# EAGLE library part ES_2144_V2 (library Electrosmith_Boards)
Designed for ES_2144_Rev_7
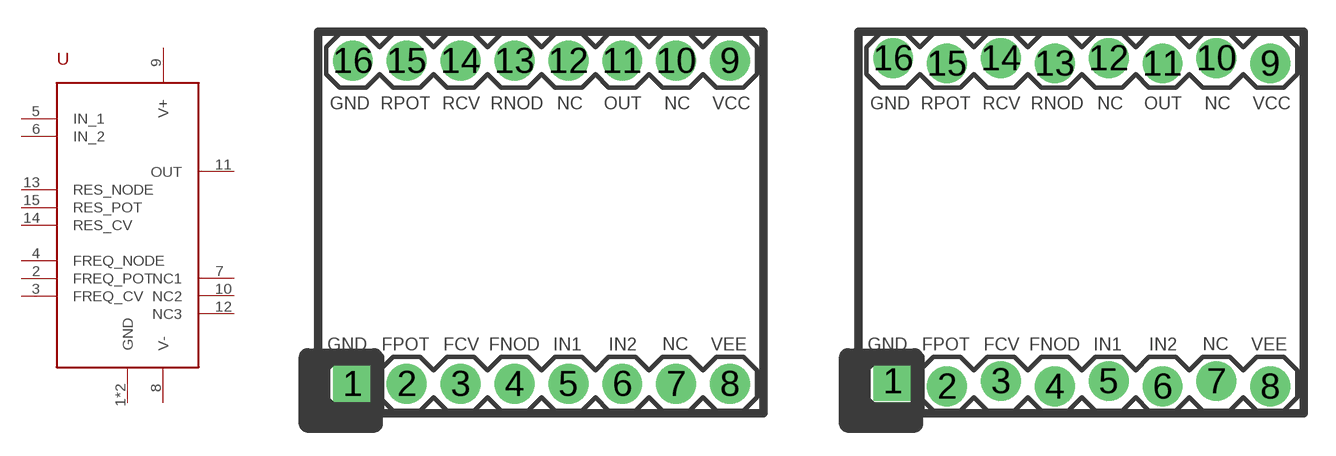
[diagram p0: symbol with the pads of ES_2144_V2; footprints ES_2144_V2, ES_2144_V2_LOCK]

Designator prefix U

## ES_2144_V2  [ES_2144_V2]
1  GND
2  FREQ_POT
3  FREQ_CV
4  FREQ_NODE
5  IN_1
6  IN_2
7  NC1
8  V-
9  V+
10  NC2
11  OUT
12  NC3
13  RES_NODE
14  RES_CV
15  RES_POT
16  GND

## ES_2144_V2_LOCK  [ES_2144_V2_LOCK]
Pads as for ES_2144_V2

## Footprint ES_2144_V2 (pad centres in mm)
drill 1.016 pad 1.88 square: 1 1.645,1.395
drill 1.016 pad 1.88: 2 4.185,1.395; 3 6.725,1.395; 4 9.265,1.395; 5 11.805,1.395; 6 14.345,1.395; 7 16.885,1.395; 8 19.425,1.395; 9 19.425,16.635; 10 16.885,16.635; 11 14.345,16.635; 12 11.805,16.635; 13 9.265,16.635; 14 6.725,16.635; 15 4.185,16.635; 16 1.645,16.635

## Footprint ES_2144_V2_LOCK (pad centres in mm)
drill 1.016 pad 1.88 square: 1 1.645,1.522
drill 1.016 pad 1.88: 2 4.185,1.268; 3 6.725,1.522; 4 9.265,1.268; 5 11.805,1.522; 6 14.345,1.268; 7 16.885,1.522; 8 19.425,1.268; 9 19.425,16.508; 10 16.885,16.762; 11 14.345,16.508; 12 11.805,16.762; 13 9.265,16.508; 14 6.725,16.762; 15 4.185,16.508; 16 1.645,16.762